# Altium integrated library LM358MX.IntLib: 1 symbol
Pins are listed as number, name and electrical type; pins without a type are passive.

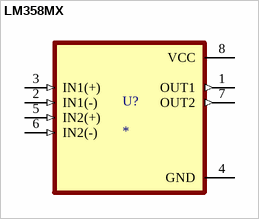
[diagram p0: symbol LM358MX]

## LM358MX
designator U?
Dual, 32-V, 1-MHz op amp; MF: Texas Instruments; MP: LM358MX/NOPB; SnapEDA_Link: https://www.snapeda.com/parts/LM358MX/NOPB/Texas+Instruments/view-part/?ref=snap; Package: SOIC-8 Texas Instruments; Value: *; Check_prices: https://www.snapeda.com/parts/LM358MX/NOPB/Texas+Instruments/view-part/?ref=eda
footprint SOIC127P599X175-8N
pins: 1 OUT1 (out), 2 IN1(-) (in), 3 IN1(+) (in), 4 GND (power), 5 IN2(+) (in), 6 IN2(-) (in), 7 OUT2 (out), 8 VCC (power)